# Altium schematic symbol library CCD_CAM_BOARD_3.SCHLIB: 61 symbols (part 1 of 2)
Pins are listed as number, name and electrical type; pins without a type are passive.

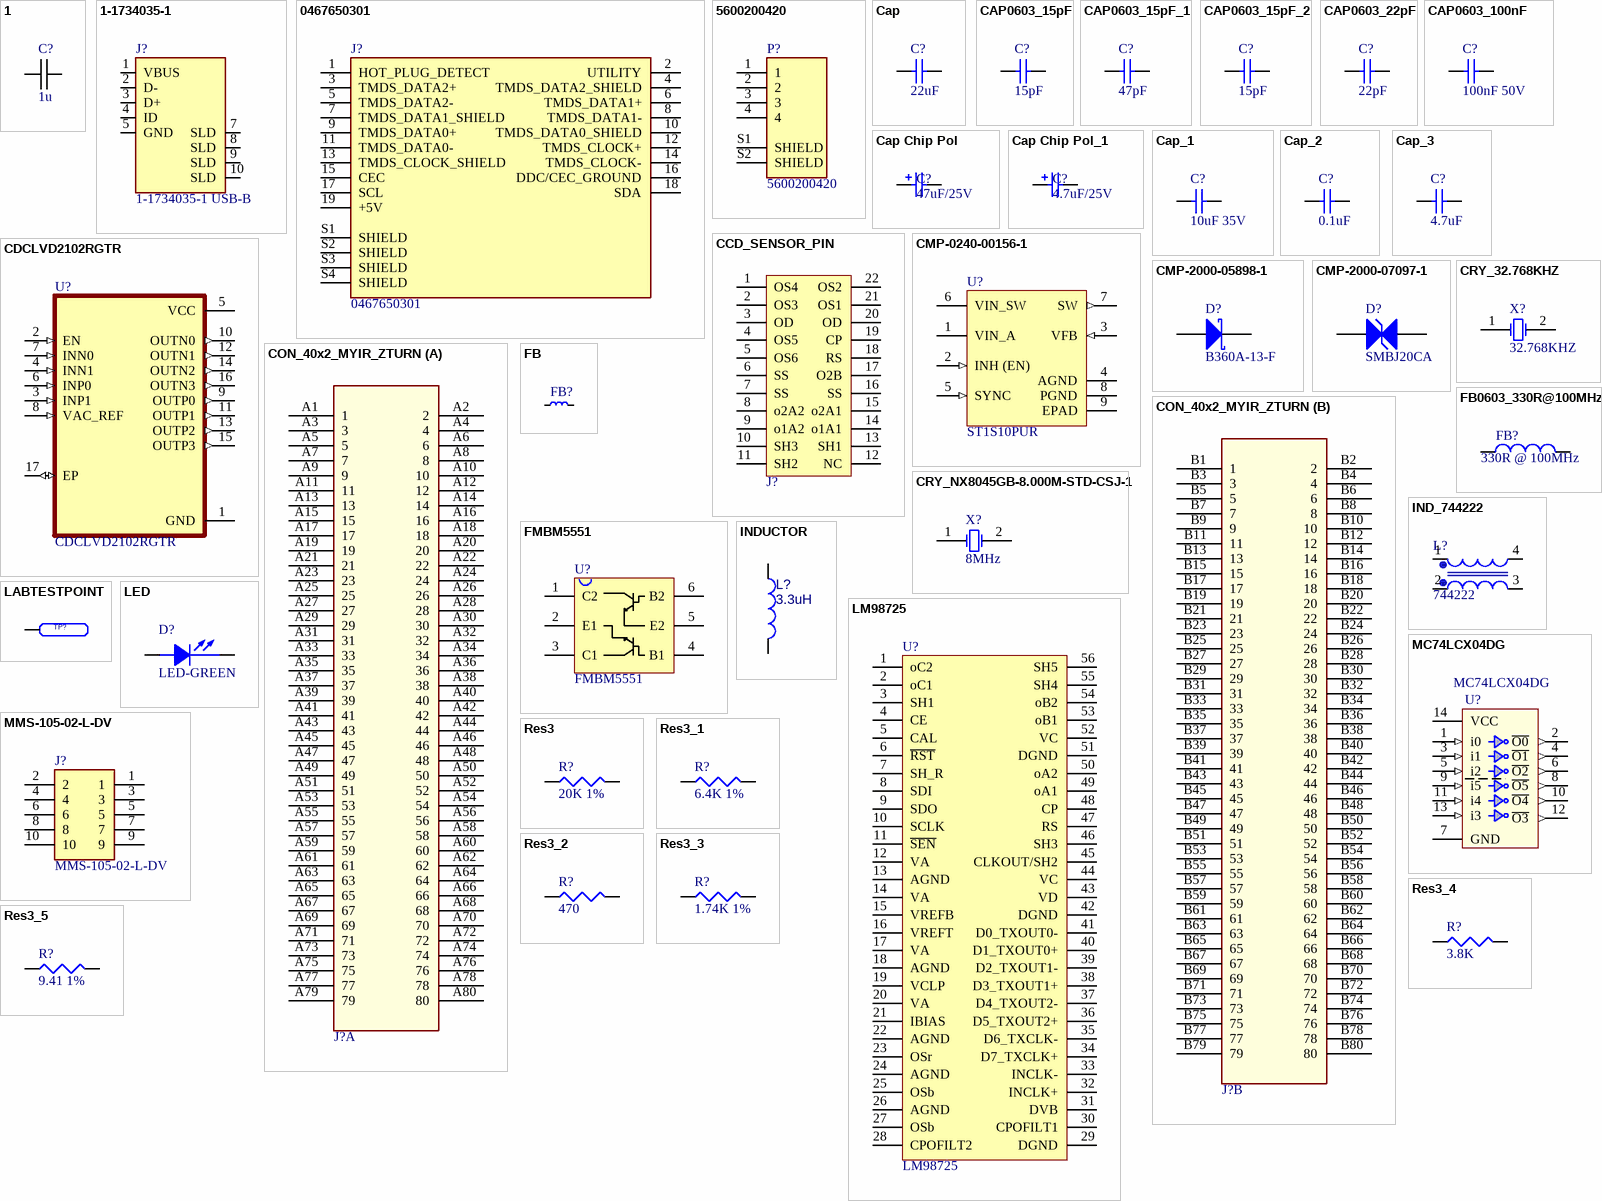
[diagram p0: symbols 1 to Res3_5]

## 1
designator C?, comment value 1u  (hidden comment: 1uF)
Capacitor 1uF, X7R, 16V, SMD0603; ID: 1; Type: Ceramic Capacitor; Manufacturer_PN: -; Package: SMD0603; Digikey Part Number: 1276-1184-1-ND
footprint C0603
pins: 1, 2

## 1-1734035-1
designator J?, comment 1-1734035-1 USB-B
Conn Mini USB 2.0 Type B RCP 5 POS 0.8mm Solder RA SMD 5 Terminal 1 Port Tray; Centerline_Pitch: .8 mm[.031 in]; Product_Type: Connector; MF: TE Connectivity; Number_of_Positions: 5; MP: 1-1734035-1; Availability: Unavailable; Package: None; Value: *; TE_purchase_URL: https://www.te.com/usa-en/product-1-1734035-1.html?te_bu=Cor&te_type=disp&te_campaign=seda_glo_cor-seda-global-disp-prtnr-fy19-seda-model-bom-cta_sma-317_1&elqCampaignId=32493; Price: None; SnapEDA_Link: https://www.snapeda.com/parts/1-1734035-1/TE%20Connectivity%20AMP%20Connectors/view-part/1088867/?ref=snap; Digikey Part Number: A111050-ND
footprint TE_1-1734035-1-3D
pins: 1 VBUS, 2 D-, 3 D+, 4 ID, 5 GND, 7 SLD, 8 SLD, 9 SLD, 10 SLD

## 0467650301
designator J?
HDMI - Micro Receptacle Connector 19 Position Surface Mount, Right Angle; MF: Molex; Value: *; Package: None; Price: None; MP: 0467650301; SnapEDA_Link: https://www.snapeda.com/parts/0467650301/Molex/view-part/2155824/?ref=snap; Availability: Unavailable
footprint MOLEX_0467650301
pins: 1 HOT_PLUG_DETECT, 2 UTILITY, 3 TMDS_DATA2+, 4 TMDS_DATA2_SHIELD, 5 TMDS_DATA2-, 6 TMDS_DATA1+, 7 TMDS_DATA1_SHIELD, 8 TMDS_DATA1-, 9 TMDS_DATA0+, 10 TMDS_DATA0_SHIELD, 11 TMDS_DATA0-, 12 TMDS_CLOCK+, 13 TMDS_CLOCK_SHIELD, 14 TMDS_CLOCK-, 15 CEC, 16 DDC/CEC_GROUND, 17 SCL, 18 SDA, 19 +5V, S1 SHIELD, S2 SHIELD, S3 SHIELD, S4 SHIELD

## 5600200420
designator P?
Connector Header Surface Mount 4 position 0.079 (2.00mm); MF: Molex; Price: None; Availability: Unavailable; MP: 5600200420; Package: None; SnapEDA_Link: https://www.snapeda.com/parts/5600200420/Molex/view-part/47265/?ref=snap; Value: *
footprint MOLEX_5600200420_3D
pins: 1, 2, 3, 4, S1 SHIELD, S2 SHIELD

## Cap
designator C?, comment 22uF
MURATA - GRM188R60J226MEA0D - CAP, 22µF, 6.3V, 20%, X5R, 0603; ComponentLink1URL: http://components.arrow.com/part/dataview/0323_06977919?src-supplier=Arrow+Europe; ComponentLink1Description: http://components.arrow.com/part/dataview/0323_06977919?src-supplier=Arrow+Europe; ComponentLink2URL: http://www.farnell.com/datasheets/1955679.pdf?src-supplier=Farnell; ComponentLink2Description: http://www.farnell.com/datasheets/1955679.pdf?src-supplier=Farnell; ComponentLink3URL: http://www.mouser.com/ds/2/281/c02e-2905.pdf?src-supplier=Mouser; ComponentLink3Description: http://www.mouser.com/ds/2/281/c02e-2905.pdf?src-supplier=Mouser; ComponentLink4URL: http://search.murata.co.jp/Ceramy/image/img/A01X/G101/ENG/GRM188R60J106KE47-02.pdf?src-supplier=Digi-Key; ComponentLink4Description: http://search.murata.co.jp/Ceramy/image/img/A01X/G101/ENG/GRM188R60J106KE47-02.pdf?src-supplier=Digi-Key; ComponentLink5URL: http://www.farnell.com/datasheets/1955679.pdf?src-supplier=Newark; ComponentLink5Description: http://www.farnell.com/datasheets/1955679.pdf?src-supplier=Newark; ComponentLink6URL: http://www.farnell.com/datasheets/1955679.pdf?src-supplier=Element14; ComponentLink6Description: http://www.farnell.com/datasheets/1955679.pdf?src-supplier=Element14; ComponentLink7URL: http://psearch.en.murata.com/capacitor/product/GRM188R60J106KE47%23.pdf?src-supplier=Avnet; ComponentLink7Description: http://psearch.en.murata.com/capacitor/product/GRM188R60J106KE47%23.pdf?src-supplier=Avnet; Supplier 1: Digi-Key; Supplier Part Number 1: 490-7611-1-ND; Manufacturer: Murata; Manufacturer Part Number: GRM188R60J226MEA0D; RoHS: Yes; Category: Ceramic Capacitors; Stock 1: 5425522; Pricing 1: 1=0,26000, 10=0,17600, 100=0,10000, 500=0,07058, 1000=0,06176 (USD); Mount: Surface Mount; Case/Package: 0603; Weight: 0.000222oz; Case Code (Metric): 1608; Case Code (Imperial): 0603; Min Operating Temperature: -55°C; Max Operating Temperature: 85°C; Capacitance: 22uF; Tolerance: 20%; Packaging: Tape and Reel; Package Quantity: 4000; Voltage Rating: 6.3V; Dielectric: X5R; Termination: SMD/SMT; Voltage Rating (DC): 6.3V; Length: 1.6mm; Height: 0.8mm; Width: 0.8mm; Thickness: 0.039inch; Depth: 0.8mm; REACH SVHC: No SVHC; Lead Free: Lead Free; ComponentLink8URL: https://datasheet.ciiva.com/29540/partnumbering-e-01-29540441.pdf?src-supplier=Digi-Key; ComponentLink8Description: https://datasheet.ciiva.com/29540/partnumbering-e-01-29540441.pdf?src-supplier=Digi-Key; ComponentLink9URL: https://datasheet.ciiva.com/29540/partnumbering-e-01-29540442.pdf?src-supplier=Digi-Key; ComponentLink9Description: https://datasheet.ciiva.com/29540/partnumbering-e-01-29540442.pdf?src-supplier=Digi-Key; ComponentLink10URL: https://datasheet.ciiva.com/29540/partnumbering-e-01-29540443.pdf?src-supplier=Digi-Key; ComponentLink10Description: https://datasheet.ciiva.com/29540/partnumbering-e-01-29540443.pdf?src-supplier=Digi-Key
footprint RAD-0.3 (Radial Cap, Thru-Hole; 2 Leads; 0.3 in Pin Spacing)
simulation model CAP (Capacitor)
signal-integrity model Cap
footprint C 0603(1608)x0.8
pins: 1, 2

## CAP0603_15pF
designator C?, comment 15pF
CAP CER 15PF 50V C0G/NP0 0603; P/N: 06035A150JAT4A; Order Code: DIGI : 478-10677-1-ND; Value: 15pF 50V
footprint CAP0603 (CAPACITOR 0603)
pins: 1, 2

## CAP0603_15pF_1
designator C?, comment 47pF
CAP CER 47PF 50V C0G 0603; Manufacturer: TDK Corporation; ManufacturerPartNumber: CGA3E2C0G1H470J080AA; DetailedDesctiprition: 47pF ±5% 50V Ceramic Capacitor C0G, NP0 0603 (1608 Metric); Value: 47pF 50V; DigikeyPartNumber: 445-5636-1-ND
footprint CAP0603 (CAPACITOR 0603)
footprint 0603 (Chip Inductor, Body 0.6x0.3mm, IPC High Density)
footprint 1608[0603] (Chip Capacitor, Body 1.6x0.8mm, IPC High Density)
footprint CAP0603 (CAPACITOR 0603)
pins: 1, 2

## CAP0603_15pF_2
designator C?, comment 15pF
CAP CER 15PF 25V C0G/NP0 0603; Manufacturer: TDK Corporation; ManufacturerPartNumber: CGA3E2C0G1H150J080AA; DetailedDesctiprition: 15pF ±5% 25V Ceramic Capacitor C0G, NP0 0603 (1608 Metric); Value: 15pF 25V; DigikeyPartNumber: 445-5630-1-ND
footprint CAP0603 (CAPACITOR 0603)
footprint 0603 (Chip Inductor, Body 0.6x0.3mm, IPC High Density)
footprint 1608[0603] (Chip Capacitor, Body 1.6x0.8mm, IPC High Density)
footprint CAP0603 (CAPACITOR 0603)
pins: 1, 2

## CAP0603_22pF
designator C?, comment 22pF
CAP CER 22PF 50V C0G/NP0 0603; P/N: GRM1885C1H220JA01D; Order Code: DIGI : 490-1411-1-ND; Value: 22pF 50V
footprint CAP0603 (CAPACITOR 0603)
pins: 1, 2

## CAP0603_100nF
designator C?, comment 100nF 50V
CAP CER 0.1UF 50V X7R 0603; P/N: C0603C104K5RACTU; Order Code: DIGI : 399-5089-1-ND; Value: 100nF 50V
footprint CAP0603 (CAPACITOR 0603)
pins: 1, 2

## Cap Chip Pol
designator C?, comment value 47uF/25V  (hidden comment: Cap)
GRM31CR61E476ME44L / Chip capacitor can be polarized or not, depending on the chip type.  Verify Capacitance and package size before placing.; Mfr Part #: GRM31CR61E476ME44L
simulation model CAP (Capacitor)
signal-integrity model Cap Pol
footprint 1206 (3216) (Chip Capacitor, Body 3.2x1.6mm, IPC High Density)
footprint 0805 (2012) (Chip, Body 2.0x1.3mm, IPC High Density)
footprint 0603 (1608) (Chip  Body 1.6x0.8mm, IPC High Density)
footprint 0402 (1005) (Chip  Body 1.0x0.5mm, IPC High Density)
pins: 1, 2
1 alternate drawing of the same symbol

## Cap Chip Pol_1
designator C?, comment value 4.7uF/25V  (hidden comment: GRM219R61E475KA73D)
GRM219R61E475KA73D / Chip capacitor can be polarized or not, depending on the chip type.  Verify Capacitance and package size before placing.; Mfr Part #: GRM219R61E475KA73D
simulation model CAP (Capacitor)
signal-integrity model Cap Pol
footprint 1206 (3216) (Chip Capacitor, Body 3.2x1.6mm, IPC High Density)
footprint 0805 (2012) (Chip, Body 2.0x1.3mm, IPC High Density)
footprint 0603 (1608) (Chip  Body 1.6x0.8mm, IPC High Density)
footprint 0402 (1005) (Chip  Body 1.0x0.5mm, IPC High Density)
pins: 1, 2
1 alternate drawing of the same symbol

## Cap_1
designator C?, comment 10uF 35V
Cap Ceramic 10uF 35V X5R 20% Pad SMD 0603 85C T/R; Manufacturer: Murata; Manufacturer Part Number: GRM188R6YA106MA73D; ComponentLink1URL: http://components.arrow.com/part/dataview/0323_06977919?src-supplier=Arrow+Europe; ComponentLink1Description: http://components.arrow.com/part/dataview/0323_06977919?src-supplier=Arrow+Europe; ComponentLink2URL: http://www.farnell.com/datasheets/1955679.pdf?src-supplier=Farnell; ComponentLink2Description: http://www.farnell.com/datasheets/1955679.pdf?src-supplier=Farnell; ComponentLink3URL: http://www.mouser.com/ds/2/281/c02e-2905.pdf?src-supplier=Mouser; ComponentLink3Description: http://www.mouser.com/ds/2/281/c02e-2905.pdf?src-supplier=Mouser; ComponentLink4URL: http://search.murata.co.jp/Ceramy/image/img/A01X/G101/ENG/GRM188R60J106KE47-02.pdf?src-supplier=Digi-Key; ComponentLink4Description: http://search.murata.co.jp/Ceramy/image/img/A01X/G101/ENG/GRM188R60J106KE47-02.pdf?src-supplier=Digi-Key; ComponentLink5URL: http://www.farnell.com/datasheets/1955679.pdf?src-supplier=Newark; ComponentLink5Description: http://www.farnell.com/datasheets/1955679.pdf?src-supplier=Newark; ComponentLink6URL: http://www.farnell.com/datasheets/1955679.pdf?src-supplier=Element14; ComponentLink6Description: http://www.farnell.com/datasheets/1955679.pdf?src-supplier=Element14; ComponentLink7URL: http://psearch.en.murata.com/capacitor/product/GRM188R60J106KE47%23.pdf?src-supplier=Avnet; ComponentLink7Description: http://psearch.en.murata.com/capacitor/product/GRM188R60J106KE47%23.pdf?src-supplier=Avnet; Supplier 1: Digi-Key; Supplier Part Number 1: 490-13248-1-ND; RoHS: Yes; Category: Ceramic Capacitors; Stock 1: 69307; Pricing 1: 1=0,50000, 10=0,34600, 100=0,20760, 500=0,15570, 1000=0,13148 (USD); Mount: Surface Mount; Case/Package: 0603; Case Code (Metric): 1608; Case Code (Imperial): 0603; Min Operating Temperature: -55°C; Max Operating Temperature: 85°C; Packaging: Tape and Reel; Capacitance: 10uF; Voltage Rating: 35V; Tolerance: 20%; Voltage Rating (DC): 35V; Dielectric: X5R; Length: 0.063inch; Width: 0.031inch; Thickness: 0.039inch; ComponentLink8URL: http://search.murata.co.jp/Ceramy/image/img/A01X/G101/ENG/GRM188R6YA106MA73-01.pdf?src-supplier=Digi-Key; ComponentLink8Description: http://search.murata.co.jp/Ceramy/image/img/A01X/G101/ENG/GRM188R6YA106MA73-01.pdf?src-supplier=Digi-Key; ComponentLink9URL: http://search.murata.co.jp/Ceramy/image/img/A01X/G101/ENG/GRM188R6YA106MA73-01.pdf?src-supplier=Mouser; ComponentLink9Description: http://search.murata.co.jp/Ceramy/image/img/A01X/G101/ENG/GRM188R6YA106MA73-01.pdf?src-supplier=Mouser; ComponentLink10URL: https://www.murata.com/~/media/webrenewal/support/library/catalog/products/capacitor/mlcc/c02e.ashx?la=en-us&src-supplier=Digi-Key; ComponentLink10Description: https://www.murata.com/~/media/webrenewal/support/library/catalog/products/capacitor/mlcc/c02e.ashx?la=en-us&src-supplier=Digi-Key; ComponentLink11URL: http://search.murata.co.jp/Ceramy/image/img/A01X/G101/ENG/GRM188R6YA106MA73-01.pdf?src-supplier=Future+Electronics; ComponentLink11Description: http://search.murata.co.jp/Ceramy/image/img/A01X/G101/ENG/GRM188R6YA106MA73-01.pdf?src-supplier=Future+Electronics; ComponentLink12URL: http://search.murata.co.jp/Ceramy/image/img/A01X/G101/ENG/GRM188R6YA106MA73-01.pdf?src-supplier=TTI; ComponentLink12Description: http://search.murata.co.jp/Ceramy/image/img/A01X/G101/ENG/GRM188R6YA106MA73-01.pdf?src-supplier=TTI
footprint RAD-0.3 (Radial Cap, Thru-Hole; 2 Leads; 0.3 in Pin Spacing)
simulation model CAP (Capacitor)
signal-integrity model Cap
footprint C 0603(1608)x0.8
pins: 1, 2

## Cap_2
designator C?, comment 0.1uF
Capacitor; Manufacturer: Murata; Manufacturer Part Number: GRM155R71C104KA88D; Material: Ceramic; Capacitance: 100nF; Tolerance: 10%; Dielectric: X7R; Voltage Rating: 16V; Insulation Resistance: 10GR; Supplier 1: Digi-Key; Supplier Part Number 1: 490-3261-6-ND; Stock 1: 141162259; Pricing 1: 1 = 0,10000, 10 = 0,03300, 100 = 0,01470, 500 = 0,01046, 1000 = 0,00822, 2500 = 0,00748, 5000 = 0,00688 (USD); RoHS: Yes; Mount: Surface Mount; Case/Package: 0402; Number of Pins: 2; Case Code (Metric): 1005; Case Code (Imperial): 0402; Dielectric Material: Ceramic; Min Operating Temperature: -55°C; Max Operating Temperature: 125°C; Packaging: Tape and Reel; Voltage Rating (DC): 16V; Package Quantity: 1; Termination: SMD/SMT; Voltage: 16V; Length: 1mm; Height: 0.5mm; Width: 0.5mm; Thickness: 0.022inch; Depth: 0.5mm; Radiation Hardening: No; REACH SVHC: No SVHC; Lead Free: Lead Free; ComponentLink1URL: https://datasheet.ciiva.com/18102/getdatasheetpartid-85307-18102905.pdf?src-supplier=Verical; ComponentLink1Description: https://datasheet.ciiva.com/18102/getdatasheetpartid-85307-18102905.pdf?src-supplier=Verical; ComponentLink2URL: https://datasheet.ciiva.com/129/grm155r71c104ka88-01-129739.pdf?src-supplier=Digi-Key; ComponentLink2Description: https://datasheet.ciiva.com/129/grm155r71c104ka88-01-129739.pdf?src-supplier=Digi-Key; ComponentLink3URL: https://datasheet.ciiva.com/129/grm155r71c104ka88-01-129740.pdf?src-supplier=Digi-Key; ComponentLink3Description: https://datasheet.ciiva.com/129/grm155r71c104ka88-01-129740.pdf?src-supplier=Digi-Key; ComponentLink4URL: https://datasheet.ciiva.com/29199/454098-da-01-en-vs-kondensator-0402-29199799.pdf?src-supplier=Conrad; ComponentLink4Description: https://datasheet.ciiva.com/29199/454098-da-01-en-vs-kondensator-0402-29199799.pdf?src-supplier=Conrad; ComponentLink5URL: https://datasheet.ciiva.com/28534/4360-28534133.pdf?src-supplier=Element14; ComponentLink5Description: https://datasheet.ciiva.com/28534/4360-28534133.pdf?src-supplier=Element14; ComponentLink6URL: https://datasheet.ciiva.com/14103/grmseries-highdielectrictype-eng-14103750.pdf?src-supplier=Distrelec; ComponentLink6Description: https://datasheet.ciiva.com/14103/grmseries-highdielectrictype-eng-14103750.pdf?src-supplier=Distrelec; ComponentLink7URL: https://datasheet.ciiva.com/16199/product-16199000.pdf?src-supplier=Future+Electronics; ComponentLink7Description: https://datasheet.ciiva.com/16199/product-16199000.pdf?src-supplier=Future+Electronics; ComponentLink8URL: https://datasheet.ciiva.com/14116/grmseries-highdielectrictype-eng-14116878.pdf?src-supplier=Distrelec; ComponentLink8Description: https://datasheet.ciiva.com/14116/grmseries-highdielectrictype-eng-14116878.pdf?src-supplier=Distrelec; ComponentLink9URL: https://datasheet.ciiva.com/7937/4360-7937615.pdf?src-supplier=Element14; ComponentLink9Description: https://datasheet.ciiva.com/7937/4360-7937615.pdf?src-supplier=Element14; ComponentLink10URL: https://datasheet.ciiva.com/28534/4360-28534127.pdf?src-supplier=Element14; ComponentLink10Description: https://datasheet.ciiva.com/28534/4360-28534127.pdf?src-supplier=Element14
footprint RAD-0.3 (Radial Cap, Thru-Hole; 2 Leads; 0.3 in Pin Spacing)
simulation model CAP (Capacitor)
signal-integrity model Cap
footprint SMC0603
footprint C 0402(1005)x0.5
pins: 1, 2

## Cap_3
designator C?, comment value 4.7uF  (hidden comment: GRM155R71H104KE14J)
Capacitor; Mfr Part #: CL10A475KA8NQNC
simulation model CAP (Capacitor)
signal-integrity model Cap
footprint 1608[0603] (Chip Capacitor, Body 1.6x0.8mm, IPC High Density)
pins: 1, 2

## CCD_SENSOR_PIN
designator J?, comment CONN  (value not drawn)
11x2 Connector
footprint CCD_SENSOR_PIN
pins: 1 OS4, 2 OS3, 3 OD, 4 OS5, 5 OS6, 6 SS, 7 SS, 8 o2A2, 9 o1A2, 10 SH3, 11 SH2, 12 NC, 13 SH1, 14 o1A1, 15 o2A1, 16 SS, 17 O2B, 18 RS, 19 CP, 20 OD, 21 OS1, 22 OS2

## CDCLVD2102RGTR
designator U?
Low Jitter, Dual 1:2 Universal-to-LVDS Buffer 16-VQFN -40 to 85; MF: Texas Instruments; MP: CDCLVD2102RGTR; Package: VQFN-16 Texas Instruments; SnapEDA_Link: https://www.snapeda.com/parts/CDCLVD2102RGTR/Texas%20Instruments/view-part/1060724/?ref=snap; Check_prices: https://www.snapeda.com/parts/CDCLVD2102RGTR/Texas%20Instruments/view-part/1060724/?ref=eda; Value: *; Digi-Key_Part_Number: 296-CDCLVD2102RGCT-ND
footprint QFN50P300X300X100-17N
pins: 1 GND (power), 2 EN (in), 3 INP1 (in), 4 INN1 (in), 5 VCC (power), 6 INP0 (in), 7 INN0 (in), 8 VAC_REF (in), 9 OUTP0 (out), 10 OUTN0 (out), 11 OUTP1 (out), 12 OUTN1 (out), 13 OUTP2 (out), 14 OUTN2 (out), 15 OUTP3 (out), 16 OUTN3 (out), 17 EP (io)

## CMP-0240-00156-1
designator U?, comment ST1S10PUR
Monolithic synchronous step-down regulator, 8-Pin DFN, Tape and Reel; Manufacturer: STMicroelectronics; Output Current: 3A; Switching Frequency: 1.2MHz; Operating Supply Voltage: 18V; Number of Outputs: 1; Output Voltage: 15.3V; Min Input Voltage: 2.5V; Efficiency: 90%; Quiescent Current: 2.5mA; Output Type: Adjustable; Synchronous Rectifier: Yes; Min Output Voltage: 800mV; ComponentLink1URL: http://www.st.com; ComponentLink2Description: Datasheet; ComponentLink1Description: Manufacturer URL; ComponentLink2URL: http://www.st.com/internet/com/TECHNICAL_RESOURCES/TECHNICAL_LITERATURE/DATASHEET/CD00169322.pdf; Supplier 1: Digi-Key; Supplier Part Number 1: 497-6313-1-ND; Manufacturer Part Number: ST1S10PUR; RoHS: Yes; Category: Voltage Regulators - Switching; Stock 1: 402; Pricing 1: 1=1,73000, 10=1,55600, 25=1,46760, 100=1,17400, 250=1,02724, 500=0,99790, 1000=0,79245 (USD); Mount: Surface Mount; Case/Package: DFN; Number of Pins: 8; Weight: 0.001319oz; Min Operating Temperature: -25°C; Max Operating Temperature: 125°C; Package Quantity: 4500; Packaging: Tape and Reel; Max Input Voltage: 18V; Max Duty Cycle: 90%; Max Output Current: 3A; Max Output Voltage: 15.3V; Length: 4mm; Height: 0.9mm; Width: 4mm; Radiation Hardening: No; Lead Free: Lead Free; REACH SVHC: No SVHC; ComponentLink3URL: https://datasheet.ciiva.com/15113/getdatasheetpartid-188392-15113798.pdf?src-supplier=Verical; ComponentLink3Description: https://datasheet.ciiva.com/15113/getdatasheetpartid-188392-15113798.pdf?src-supplier=Verical; ComponentLink4URL: https://datasheet.ciiva.com/26902/st1s10pur-26902772.pdf?src-supplier=IIIC; ComponentLink4Description: https://datasheet.ciiva.com/26902/st1s10pur-26902772.pdf?src-supplier=IIIC; ComponentLink5URL: https://datasheet.ciiva.com/2025/cd00169322-2025410.pdf?src-supplier=Digi-Key; ComponentLink5Description: https://datasheet.ciiva.com/2025/cd00169322-2025410.pdf?src-supplier=Digi-Key; ComponentLink6URL: https://datasheet.ciiva.com/2025/cd00169322-2025408.pdf?src-supplier=Digi-Key; ComponentLink6Description: https://datasheet.ciiva.com/2025/cd00169322-2025408.pdf?src-supplier=Digi-Key; ComponentLink7URL: https://datasheet.ciiva.com/2025/cd00169322-2025409.pdf?src-supplier=Digi-Key; ComponentLink7Description: https://datasheet.ciiva.com/2025/cd00169322-2025409.pdf?src-supplier=Digi-Key; ComponentLink8URL: https://datasheet.ciiva.com/16205/cd00169322-16205241.pdf?src-supplier=Future+Electronics; ComponentLink8Description: https://datasheet.ciiva.com/16205/cd00169322-16205241.pdf?src-supplier=Future+Electronics; ComponentLink9URL: https://datasheet.ciiva.com/4905/cd00169322-4905020.pdf?src-supplier=Mouser; ComponentLink9Description: https://datasheet.ciiva.com/4905/cd00169322-4905020.pdf?src-supplier=Mouser; ComponentLink10URL: https://datasheet.ciiva.com/41457/001185576-da-01-en-ic-reg-buck-sync-a-st1s10pur-3adfn-8-stm-41457644.pdf?src-supplier=Conrad; ComponentLink10Description: https://datasheet.ciiva.com/41457/001185576-da-01-en-ic-reg-buck-sync-a-st1s10pur-3adfn-8-stm-41457644.pdf?src-supplier=Conrad
footprint DFN(4x4)_N (SON, 8-Leads, Body 4x4mm, Pitch 0.8mm, Thermal Pad 3x2.2mm, IPC Medium Density)
footprint DFN(4x4)_M (SON, 8-Leads, Body 4x4mm, Pitch 0.8mm, Thermal Pad 3x2.2mm, IPC Low Density)
footprint DFN(4x4)_L (SON, 8-Leads, Body 4x4mm, Pitch 0.8mm, Thermal Pad 3x2.2mm, IPC High Density)
pins: 1 VIN_A (power), 2 INH (EN) (in), 3 VFB (in), 4 AGND (power), 5 SYNC (in), 6 VIN_SW (power), 7 SW (out), 8 PGND (power), 9 EPAD (power)

## CMP-2000-05898-1
designator D?, comment B360A-13-F
Schottky Barrier Rectifier, 3 A, -55 to 150 degC, 2-Pin Molded, RoHS, Tape and Reel; Manufacturer: Diodes; Forward Current: 3A; Max Repetitive Reverse Voltage (Vrrm): 60V; Element Configuration: Single; Forward Voltage: 700mV; Peak Reverse Current: 500uA; Max Forward Surge Current (Ifsm): 80A; Polarity: Standard; Capacitance: 250pF; Supplier 1: Digi-Key; Supplier Part Number 1: B360A-FDICT-ND; Manufacturer Part Number: B360A-13-F; RoHS: Yes; Category: Schottky Diodes; Stock 1: 508300; Pricing 1: 1=0,38000, 10=0,30800, 100=0,17690, 500=0,16380, 1000=0,11138 (USD); Mount: Surface Mount; Case/Package: SMA; Number of Pins: 2; Weight: 0.002258oz; Contact Plating: Tin,Matte; Min Operating Temperature: -55°C; Max Operating Temperature: 150°C; Packaging: Tape and Reel; Peak Non-Repetitive Surge Current: 80A; Package Quantity: 5000; Average Rectified Current: 3A; Termination: SMD/SMT; Voltage Rating (DC): 60V; Current Rating: 3A; Output Current: 3A; Max Reverse Voltage (DC): 60V; Length: 4.6mm; Height: 2.3mm; Width: 2.92mm; Radiation Hardening: No; REACH SVHC: No SVHC; Lead Free: Lead Free; ComponentLink1URL: https://datasheet.ciiva.com/914/ds30891-914080.pdf?src-supplier=Digi-Key; ComponentLink1Description: https://datasheet.ciiva.com/914/ds30891-914080.pdf?src-supplier=Digi-Key; ComponentLink2URL: https://datasheet.ciiva.com/4244/861ds30891-4244631.pdf?src-supplier=Arrow; ComponentLink2Description: https://datasheet.ciiva.com/4244/861ds30891-4244631.pdf?src-supplier=Arrow; ComponentLink3URL: https://datasheet.ciiva.com/34302/1538902-34302361.pdf?src-supplier=Jameco; ComponentLink3Description: https://datasheet.ciiva.com/34302/1538902-34302361.pdf?src-supplier=Jameco; ComponentLink4URL: https://datasheet.ciiva.com/26788/b360a-13-f-26788524.pdf?src-supplier=IIIC; ComponentLink4Description: https://datasheet.ciiva.com/26788/b360a-13-f-26788524.pdf?src-supplier=IIIC; ComponentLink5URL: https://datasheet.ciiva.com/914/ds30891-914081.pdf?src-supplier=Digi-Key; ComponentLink5Description: https://datasheet.ciiva.com/914/ds30891-914081.pdf?src-supplier=Digi-Key; ComponentLink6URL: https://datasheet.ciiva.com/25919/ds30891-25919703.pdf?src-supplier=Avnet+Europe; ComponentLink6Description: https://datasheet.ciiva.com/25919/ds30891-25919703.pdf?src-supplier=Avnet+Europe; ComponentLink7URL: https://datasheet.ciiva.com/22695/1911813-22695787.pdf?src-supplier=Element14; ComponentLink7Description: https://datasheet.ciiva.com/22695/1911813-22695787.pdf?src-supplier=Element14; ComponentLink8URL: https://datasheet.ciiva.com/914/ds30891-914082.pdf?src-supplier=Digi-Key; ComponentLink8Description: https://datasheet.ciiva.com/914/ds30891-914082.pdf?src-supplier=Digi-Key; ComponentLink9URL: https://datasheet.ciiva.com/1177/ds30891-1177482.pdf?src-supplier=Element14; ComponentLink9Description: https://datasheet.ciiva.com/1177/ds30891-1177482.pdf?src-supplier=Element14; ComponentLink10URL: https://datasheet.ciiva.com/16199/ds13005-16199422.pdf?src-supplier=Future+Electronics; ComponentLink10Description: https://datasheet.ciiva.com/16199/ds13005-16199422.pdf?src-supplier=Future+Electronics
footprint DIOD-B360A_V (Molded Diode, 2-Leads, Body 4.60x2.92mm)
pins: 1 A, 2 K

## CMP-2000-07097-1
designator D?, comment SMBJ20CA
Manufacturer: Bourns; Clamping Voltage: 32.4V; Peak Pulse Power: 600W; Reverse Standoff Voltage: 20V; Peak Pulse Current: 18.5A; Polarity: Bidirectional; Test Current: 1mA; Breakdown Voltage: 25.5V; Max Surge Current: 100A; Min Breakdown Voltage: 22.2V; Number of Elements: 1; Operating Supply Voltage: 3.5V; Leakage Current: 5uA; Power Line Protection: No; Element Configuration: Single; ComponentLink1URL: https://datasheet.ciiva.com/15143/getdatasheetpartid-185159-15143883.pdf?src-supplier=Verical; ComponentLink1Description: https://datasheet.ciiva.com/15143/getdatasheetpartid-185159-15143883.pdf?src-supplier=Verical; ComponentLink2URL: https://datasheet.ciiva.com/331/littelfuse-tvs-diode-smbj-datasheet-pdf-331700.pdf?src-supplier=Digi-Key; ComponentLink2Description: https://datasheet.ciiva.com/331/littelfuse-tvs-diode-smbj-datasheet-pdf-331700.pdf?src-supplier=Digi-Key; ComponentLink3URL: https://datasheet.ciiva.com/331/littelfuse-tvs-diode-smbj-datasheet-pdf-331701.pdf?src-supplier=Digi-Key; ComponentLink3Description: https://datasheet.ciiva.com/331/littelfuse-tvs-diode-smbj-datasheet-pdf-331701.pdf?src-supplier=Digi-Key; ComponentLink4URL: https://datasheet.ciiva.com/16291/littelfuse-tvs-diode-smbj-16291749.pdf?src-supplier=Future+Electronics; ComponentLink4Description: https://datasheet.ciiva.com/16291/littelfuse-tvs-diode-smbj-16291749.pdf?src-supplier=Future+Electronics; ComponentLink5URL: https://datasheet.ciiva.com/331/littelfuse-tvs-diode-smbj-datasheet-pdf-331702.pdf?src-supplier=Digi-Key; ComponentLink5Description: https://datasheet.ciiva.com/331/littelfuse-tvs-diode-smbj-datasheet-pdf-331702.pdf?src-supplier=Digi-Key; ComponentLink6URL: https://datasheet.ciiva.com/8062/littelfuse-tvs-diode-smbj-8062331.pdf?src-supplier=Element14; ComponentLink6Description: https://datasheet.ciiva.com/8062/littelfuse-tvs-diode-smbj-8062331.pdf?src-supplier=Element14; ComponentLink7URL: https://datasheet.ciiva.com/4509/littelfuse-tvs-diode-smbj-48653-4509661.pdf?src-supplier=Mouser; ComponentLink7Description: https://datasheet.ciiva.com/4509/littelfuse-tvs-diode-smbj-48653-4509661.pdf?src-supplier=Mouser; ComponentLink8URL: https://datasheet.ciiva.com/14162/smbj-eng-ds-14162031.pdf?src-supplier=Distrelec; ComponentLink8Description: https://datasheet.ciiva.com/14162/smbj-eng-ds-14162031.pdf?src-supplier=Distrelec; Supplier 1: Digi-Key; Supplier Part Number 1: SMBJ20CABCT-ND; Manufacturer Part Number: SMBJ20CA; RoHS: Yes; Category: TVS Diodes; Stock 1: 8734; Pricing 1: 1=0,46000, 10=0,34800, 25=0,31360, 100=0,16530, 250=0,16360, 500=0,14650, 1000=0,11400 (USD); Mount: Surface Mount; Case/Package: SMB; Number of Pins: 2; Min Operating Temperature: -55°C; Max Operating Temperature: 150°C; Packaging: Tape and Reel; Package Quantity: 1; Reverse Breakdown Voltage: 22.2V; Number of Channels: 1; Direction: Bidirectional; Composition: Zener; Max Reverse Leakage Current: 5uA; Termination: SMD/SMT; Number of Bidirectional Channels: 1; Max Breakdown Voltage: 25.5V; Max Power Dissipation: 600W; Radiation Hardening: No; REACH SVHC: No SVHC; ComponentLink9URL: https://datasheet.ciiva.com/3022/smbj-3022486.pdf?src-supplier=Avnet; ComponentLink9Description: https://datasheet.ciiva.com/3022/smbj-3022486.pdf?src-supplier=Avnet; ComponentLink10URL: https://datasheet.ciiva.com/3022/smbj-3022487.pdf?src-supplier=Avnet; ComponentLink10Description: https://datasheet.ciiva.com/3022/smbj-3022487.pdf?src-supplier=Avnet; ComponentLink11URL: https://datasheet.ciiva.com/17413/smbj-17413419.pdf?src-supplier=Avnet+Europe; ComponentLink11Description: https://datasheet.ciiva.com/17413/smbj-17413419.pdf?src-supplier=Avnet+Europe; ComponentLink12URL: https://datasheet.ciiva.com/334/smbj-334796.pdf?src-supplier=Digi-Key; ComponentLink12Description: https://datasheet.ciiva.com/334/smbj-334796.pdf?src-supplier=Digi-Key; ComponentLink13URL: https://datasheet.ciiva.com/334/smbj-334798.pdf?src-supplier=Digi-Key; ComponentLink13Description: https://datasheet.ciiva.com/334/smbj-334798.pdf?src-supplier=Digi-Key; ComponentLink14URL: https://datasheet.ciiva.com/334/smbj-334797.pdf?src-supplier=Digi-Key; ComponentLink14Description: https://datasheet.ciiva.com/334/smbj-334797.pdf?src-supplier=Digi-Key
footprint FAIR-DO-214AA-A-2_V (Molded Diode, 2-Leads, Body 4.75x3.95mm)
pins: 1 A, 2 A

## CON_40x2_MYIR_ZTURN
designator J?, comment 40x2 Connector 1.27mm Pitch  (value not drawn)
footprint CON2x80_MYIR
footprint CON2x80_MYIR_SMD
part A pins: A1 1, A2 2, A3 3, A4 4, A5 5, A6 6, A7 7, A8 8, A9 9, A10 10, A11 11, A12 12, A13 13, A14 14, A15 15, A16 16, A17 17, A18 18, A19 19, A20 20, A21 21, A22 22, A23 23, A24 24, A25 25, A26 26, A27 27, A28 28, A29 29, A30 30, A31 31, A32 32, A33 33, A34 34, A35 35, A36 36, A37 37, A38 38, A39 39, A40 40, A41 41, A42 42, A43 43, A44 44, A45 45, A46 46, A47 47, A48 48, A49 49, A50 50, A51 51, A52 52, A53 53, A54 54, A55 55, A56 56, A57 57, A58 58, A59 59, A60 60, A61 61, A62 62, A63 63, A64 64, A65 65, A66 66, A67 67, A68 68, A69 69, A70 70, A71 71, A72 72, A73 73, A74 74, A75 75, A76 76, A77 77, A78 78, A79 79, A80 80
part B pins: B1 1, B2 2, B3 3, B4 4, B5 5, B6 6, B7 7, B8 8, B9 9, B10 10, B11 11, B12 12, B13 13, B14 14, B15 15, B16 16, B17 17, B18 18, B19 19, B20 20, B21 21, B22 22, B23 23, B24 24, B25 25, B26 26, B27 27, B28 28, B29 29, B30 30, B31 31, B32 32, B33 33, B34 34, B35 35, B36 36, B37 37, B38 38, B39 39, B40 40, B41 41, B42 42, B43 43, B44 44, B45 45, B46 46, B47 47, B48 48, B49 49, B50 50, B51 51, B52 52, B53 53, B54 54, B55 55, B56 56, B57 57, B58 58, B59 59, B60 60, B61 61, B62 62, B63 63, B64 64, B65 65, B66 66, B67 67, B68 68, B69 69, B70 70, B71 71, B72 72, B73 73, B74 74, B75 75, B76 76, B77 77, B78 78, B79 79, B80 80

## CRY_32.768KHZ
designator X?, comment 32.768KHZ
CRYSTAL 32.768KHZ 12.5PF SMD; P/N: CM7V-T1A-32.768KHZ-12.5PF-20PPM-TB-QA; Order Code: DIGI : 2195-CM7V-T1A-32.768KHZ-12.5PF-20PPM-TB-QACT-ND; Value: 32.768KHZ
footprint CRY_ABS07 (0.126" L x 0.059" W (3.20mm x 1.50mm))
pins: 1 OSC1, 2 OSC2

## CRY_NX8045GB-8.000M-STD-CSJ-1
designator X?, comment 8MHz
CRYSTAL 8.0000MHZ 8PF SMD; P/N: NX8045GB-8.000M-STD-CSJ-1; Order Code: DIGI : 644-1206-1-ND; Value: 8MHz
footprint CRY_NX8045GB (0.315" L x 0.177" W (8.00mm x 4.50mm))
pins: 1 OSC1, 2 OSC2

## FB
designator FB?, comment NFZ2MSD600SN10L  (value not drawn)
Mfr Part #: NFZ2MSD600SN10L
footprint FB0402
footprint FB0806
pins: 1, 2

## FB0603_330R@100MHz
designator FB?, comment 330R @ 100MHz
FERRITE BEAD 330 OHM 0603 1LN; P/N: BLM18SG331TN1D; Order Code: DIGI : 490-3997-1-ND; Value: 330R @ 100MHz
footprint FB0603 (0.063" L x 0.031" W (1.60mm x 0.80mm))
pins: 1, 2

## FMBM5551
designator U?
footprint SOT95P285X140-6N
pins: 1 C2, 2 E1, 3 C1, 4 B1, 5 E2, 6 B2

## IND_744222
designator L?, comment 744222  (value not drawn)
Würth CMC 1MH 800MA 2LN 6 KOHM SMD; Digikey Part Number: 732-1485-1-ND; Manufacturer Part Number: 744222
footprint IND_744222_3D
pins: 1, 2, 3, 4

## INDUCTOR
designator L?, comment 3.3uH
Manufacturer: Vishay Dale; Manufacturer Part Number: IFSC1515AHER3R3M01; Tolerance: 20%; Shielding: Shielded; Current Rating: 2.7A; Saturation Current: 2.4A; DC Resistance (DCR): 56mR; Test Frequency: 100kHz; Supplier 1: Digi-Key; Supplier Part Number 1: 541-2549-1-ND; Stock 1: 20851; Pricing 1: 1 = 0,64000, 10 = 0,55900, 100 = 0,39960, 500 = 0,33568, 1000 = 0,27175 (USD); RoHS: Yes; Mount: Surface Mount; Case/Package: 1515; Number of Pins: 2; Weight: 0.001693oz; Min Operating Temperature: -55°C; Max Operating Temperature: 125°C; Packaging: Tape and Reel; Inductance Tolerance: 20%; Package Quantity: 2000; Inductance: 3.3uH; Max DC Current: 2.4A; Termination: SMD/SMT; RMS Current (Irms): 2.7A; Military Standard: Not; Length: 0.15inch; Height: 0.071inch; Width: 0.15inch; Height - Seated (Max): 0.075inch; Depth: 4mm; REACH SVHC: Unknown; Lead Free: Lead Free; ComponentLink1URL: https://datasheet.ciiva.com/8494/sc15ah01-8494965.pdf?src-supplier=Avnet; ComponentLink1Description: https://datasheet.ciiva.com/8494/sc15ah01-8494965.pdf?src-supplier=Avnet; ComponentLink2URL: https://datasheet.ciiva.com/8017/sc15ah01-8017544.pdf?src-supplier=Element14; ComponentLink2Description: https://datasheet.ciiva.com/8017/sc15ah01-8017544.pdf?src-supplier=Element14; ComponentLink3URL: https://datasheet.ciiva.com/22726/1730404-22726059.pdf?src-supplier=Element14; ComponentLink3Description: https://datasheet.ciiva.com/22726/1730404-22726059.pdf?src-supplier=Element14; ComponentLink4URL: https://datasheet.ciiva.com/16441/sc15ah01-16441598.pdf?src-supplier=Future+Electronics; ComponentLink4Description: https://datasheet.ciiva.com/16441/sc15ah01-16441598.pdf?src-supplier=Future+Electronics; ComponentLink5URL: https://datasheet.ciiva.com/6694/sc15ah01-6694703.pdf?src-supplier=Digi-Key; ComponentLink5Description: https://datasheet.ciiva.com/6694/sc15ah01-6694703.pdf?src-supplier=Digi-Key
footprint IFSC1515AHER
pins: 1, 2

## LABTESTPOINT
designator TP?, comment 3V7  (value not drawn)
CHIPS_PART_NAME: LABTESTPOINT; OriginalSymbolOrigin: (0,50); PATH: I62; PACK_TYPE: PIN; SEC: 1; XY: (-650,5200); VER: 3; ROT: 0; LOCATION: TP501; DRAWING: @P3326_A01_LIB.P3326_A01(SCH_1):PAGE3; DEVICE_TYPENAME: LABTESTPOINT_PIN-LABTESTPOINT; CDS_LIB: electro_mechanic; SKU: COMMON; PHYS_PAGE: 3; CDS_SEC: 1; CDS_PHYS_PART_NAME: LABTESTPOINT_PIN-LABTESTPOINT; CDS_PART_NAME: LABTESTPOINT_PIN-LABTESTPOINT; CDS_LOCATION: TP501
footprint LTPT35C49P
pins: 1

## LED
designator D?, comment LED-GREEN
ROHM         SML-D12P8WT86             LED, EXCELED, Green, SMD, 20 mA, 2.2 V, 560 nm; Lens Color: White; Lens Style: Rectangular,Diffused,Colorless; Dominant Wavelength: 560nm; Forward Voltage: 2.2V; Luminous Intensity: 6.3mcd; Test Current: 20mA; Number of LEDs: 1; Viewing Angle: 160°; Lens Transparency: Diffused; ComponentLink1URL: https://datasheet.ciiva.com/12400/ltst-s270gkt-201857-12400883.pdf?src-supplier=Mouser; ComponentLink1Description: https://datasheet.ciiva.com/12400/ltst-s270gkt-201857-12400883.pdf?src-supplier=Mouser; ComponentLink2URL: https://datasheet.ciiva.com/11773/0900766b80dc0b86-11773515.pdf?src-supplier=RSComponents; ComponentLink2Description: https://datasheet.ciiva.com/11773/0900766b80dc0b86-11773515.pdf?src-supplier=RSComponents; ComponentLink3URL: https://datasheet.ciiva.com/2110/ltst-s270gkt-2110018.pdf?src-supplier=Digi-Key; ComponentLink3Description: https://datasheet.ciiva.com/2110/ltst-s270gkt-2110018.pdf?src-supplier=Digi-Key; ComponentLink4URL: https://datasheet.ciiva.com/2110/ltst-s270gkt-2110020.pdf?src-supplier=Digi-Key; ComponentLink4Description: https://datasheet.ciiva.com/2110/ltst-s270gkt-2110020.pdf?src-supplier=Digi-Key; ComponentLink5URL: https://datasheet.ciiva.com/2110/ltst-s270gkt-2110019.pdf?src-supplier=Digi-Key; ComponentLink5Description: https://datasheet.ciiva.com/2110/ltst-s270gkt-2110019.pdf?src-supplier=Digi-Key; ComponentLink6URL: https://datasheet.ciiva.com/2110/sml-d1-2110417.pdf?src-supplier=Digi-Key; ComponentLink6Description: https://datasheet.ciiva.com/2110/sml-d1-2110417.pdf?src-supplier=Digi-Key; ComponentLink7URL: https://datasheet.ciiva.com/16488/rohm20sml-d12p8wt86-16488100.pdf?src-supplier=Future+Electronics; ComponentLink7Description: https://datasheet.ciiva.com/16488/rohm20sml-d12p8wt86-16488100.pdf?src-supplier=Future+Electronics; ComponentLink8URL: https://datasheet.ciiva.com/2110/sml-d1-2110418.pdf?src-supplier=Digi-Key; ComponentLink8Description: https://datasheet.ciiva.com/2110/sml-d1-2110418.pdf?src-supplier=Digi-Key; ComponentLink9URL: https://datasheet.ciiva.com/2110/sml-d1-2110419.pdf?src-supplier=Digi-Key; ComponentLink9Description: https://datasheet.ciiva.com/2110/sml-d1-2110419.pdf?src-supplier=Digi-Key; ComponentLink10URL: https://datasheet.ciiva.com/3161/sml-d1-3161420.pdf?src-supplier=Avnet; ComponentLink10Description: https://datasheet.ciiva.com/3161/sml-d1-3161420.pdf?src-supplier=Avnet; Supplier 1: Digi-Key; Supplier Part Number 1: 511-1579-1-ND; Manufacturer: Rohm; Manufacturer Part Number: SML-D12P8WT86; RoHS: Yes; Category: LEDs; Stock 1: 31644; Pricing 1: 1=0,33000, 10=0,23900, 100=0,11340, 500=0,07560, 1000=0,05922 (USD); Mount: Surface Mount; Case/Package: 0603; Number of Pins: 2; Color: Green; Case Code (Metric): 1608; Case Code (Imperial): 0603; Min Operating Temperature: -40°C; Max Operating Temperature: 85°C; Packaging: Tape and Reel; Package Quantity: 1; Illumination Color: Green; Forward Current: 20mA; Wavelength: 560nm; Length: 1.6mm; Height: 0.65mm; Width: 0.8mm; Radiation Hardening: No; REACH SVHC: Unknown; Lead Free: Lead Free
footprint LED_0603
pins: 1 ANODE, 2 CATHODE

## LM98725
designator U?
Mfr Part #: LM98725
footprint SOP50P810X110-56N
pins: 1 oC2, 2 oC1, 3 SH1, 4 CE, 5 CAL, 6 ~{RST}, 7 SH_R, 8 SDI, 9 SDO, 10 SCLK, 11 ~{SEN}, 12 VA, 13 AGND, 14 VA, 15 VREFB, 16 VREFT, 17 VA, 18 AGND, 19 VCLP, 20 VA, 21 IBIAS, 22 AGND, 23 OSr, 24 AGND, 25 OSb, 26 AGND, 27 OSb, 28 CPOFILT2, 29 DGND, 30 CPOFILT1, 31 DVB, 32 INCLK+, 33 INCLK-, 34 D7_TXCLK+, 35 D6_TXCLK-, 36 D5_TXOUT2+, 37 D4_TXOUT2-, 38 D3_TXOUT1+, 39 D2_TXOUT1-, 40 D1_TXOUT0+, 41 D0_TXOUT0-, 42 DGND, 43 VD, 44 VC, 45 CLKOUT/SH2, 46 SH3, 47 RS, 48 CP, 49 oA1, 50 oA2, 51 DGND, 52 VC, 53 oB1, 54 oB2, 55 SH4, 56 SH5

## MC74LCX04DG
designator U?
Inverter IC 6 Channel 14-SOIC; Value: *
footprint SOIC127P600X175-14N
pins: 1 i0 (in), 2 ~{O0} (out), 3 i1 (in), 4 ~{O1} (out), 5 i2 (in), 6 ~{O2} (out), 7 GND, 8 ~{O5} (out), 9 i5 (in), 10 ~{O4} (out), 11 i4 (in), 12 ~{O3} (out), 13 i3 (in), 14 VCC (power)

## MMS-105-02-L-DV
designator J?
10 Position Receptacle Connector Surface Mount; MF: Samtec; Price: None; Package: None; Toby_UK-Purchase-URL: https://snapeda.com/shop?store=Toby+UK&id=4795617; Availability: Bad; MP: MMS-105-02-L-DV; Value: *; SnapEDA_Link: https://www.snapeda.com/parts/MMS-105-02-L-DV/Samtec/view-part/4795617/?ref=snap
footprint SAMTEC_MMS-105-02-L-DV
pins: 1, 2, 3, 4, 5, 6, 7, 8, 9, 10

## Res3
designator R?, comment 20K 1%
RES 20K OHM 1% 1/16W 0402; Manufacturer: Vishay; Manufacturer Part Number: CRCW040220K0FKEDC; Power Rating: 62.5mW; Resistance: 20kR; Temperature Coefficient: 100ppm/°C; ComponentLink1URL: https://datasheet.ciiva.com/11819/0900766b80c66297-11819477.pdf?src-supplier=RSComponents; ComponentLink1Description: https://datasheet.ciiva.com/11819/0900766b80c66297-11819477.pdf?src-supplier=RSComponents; ComponentLink2URL: https://datasheet.ciiva.com/12666/pyu-rc0402-51-rohs-l-6-r-12666741.pdf?src-supplier=Mouser; ComponentLink2Description: https://datasheet.ciiva.com/12666/pyu-rc0402-51-rohs-l-6-r-12666741.pdf?src-supplier=Mouser; ComponentLink3URL: https://datasheet.ciiva.com/17063/pyu-rc0402-51-rohs-l-6-r-17063193.pdf?src-supplier=Future+Electronics; ComponentLink3Description: https://datasheet.ciiva.com/17063/pyu-rc0402-51-rohs-l-6-r-17063193.pdf?src-supplier=Future+Electronics; ComponentLink4URL: https://datasheet.ciiva.com/22747/1018594-22747513.pdf?src-supplier=Element14; ComponentLink4Description: https://datasheet.ciiva.com/22747/1018594-22747513.pdf?src-supplier=Element14; ComponentLink5URL: https://datasheet.ciiva.com/7849/1018594-7849869.pdf?src-supplier=Element14; ComponentLink5Description: https://datasheet.ciiva.com/7849/1018594-7849869.pdf?src-supplier=Element14; ComponentLink6URL: https://datasheet.ciiva.com/7983/1018594-7983502.pdf?src-supplier=Element14; ComponentLink6Description: https://datasheet.ciiva.com/7983/1018594-7983502.pdf?src-supplier=Element14; ComponentLink7URL: https://datasheet.ciiva.com/7849/1018594-7849871.pdf?src-supplier=Element14; ComponentLink7Description: https://datasheet.ciiva.com/7849/1018594-7849871.pdf?src-supplier=Element14; ComponentLink8URL: https://datasheet.ciiva.com/2553/pyu-r-int-thick-7-2553200.pdf?src-supplier=Digi-Key; ComponentLink8Description: https://datasheet.ciiva.com/2553/pyu-r-int-thick-7-2553200.pdf?src-supplier=Digi-Key; ComponentLink9URL: https://datasheet.ciiva.com/7983/1018594-7983501.pdf?src-supplier=Element14; ComponentLink9Description: https://datasheet.ciiva.com/7983/1018594-7983501.pdf?src-supplier=Element14; ComponentLink10URL: https://datasheet.ciiva.com/2553/pyu-r-int-thick-7-2553201.pdf?src-supplier=Digi-Key; ComponentLink10Description: https://datasheet.ciiva.com/2553/pyu-r-int-thick-7-2553201.pdf?src-supplier=Digi-Key; ComponentLink11URL: https://datasheet.ciiva.com/2553/pyu-r-int-thick-7-2553202.pdf?src-supplier=Digi-Key; ComponentLink11Description: https://datasheet.ciiva.com/2553/pyu-r-int-thick-7-2553202.pdf?src-supplier=Digi-Key; ComponentLink12URL: https://datasheet.ciiva.com/15189/getdatasheetpartid-251817-15189388.pdf?src-supplier=Verical; ComponentLink12Description: https://datasheet.ciiva.com/15189/getdatasheetpartid-251817-15189388.pdf?src-supplier=Verical; ComponentLink13URL: https://datasheet.ciiva.com/11808/0900766b80c66297-11808454.pdf?src-supplier=RSComponents; ComponentLink13Description: https://datasheet.ciiva.com/11808/0900766b80c66297-11808454.pdf?src-supplier=RSComponents; ComponentLink14URL: https://datasheet.ciiva.com/2453/pyu-r-int-thick-7-2453494.pdf?src-supplier=Digi-Key; ComponentLink14Description: https://datasheet.ciiva.com/2453/pyu-r-int-thick-7-2453494.pdf?src-supplier=Digi-Key; ComponentLink15URL: https://datasheet.ciiva.com/2453/pyu-r-int-thick-7-2453495.pdf?src-supplier=Digi-Key; ComponentLink15Description: https://datasheet.ciiva.com/2453/pyu-r-int-thick-7-2453495.pdf?src-supplier=Digi-Key; ComponentLink16URL: https://datasheet.ciiva.com/7983/1018594-7983511.pdf?src-supplier=Element14; ComponentLink16Description: https://datasheet.ciiva.com/7983/1018594-7983511.pdf?src-supplier=Element14; ComponentLink17URL: https://datasheet.ciiva.com/12558/pyu-rc0402-51-rohs-l-6-r-8721-12558796.pdf?src-supplier=Mouser; ComponentLink17Description: https://datasheet.ciiva.com/12558/pyu-rc0402-51-rohs-l-6-r-8721-12558796.pdf?src-supplier=Mouser; ComponentLink18URL: https://datasheet.ciiva.com/2453/pyu-r-int-thick-7-2453493.pdf?src-supplier=Digi-Key; ComponentLink18Description: https://datasheet.ciiva.com/2453/pyu-r-int-thick-7-2453493.pdf?src-supplier=Digi-Key; ComponentLink19URL: https://datasheet.ciiva.com/46394/1018594-46394974.pdf?src-supplier=Element14; ComponentLink19Description: https://datasheet.ciiva.com/46394/1018594-46394974.pdf?src-supplier=Element14; Supplier 1: Digi-Key; Supplier Part Number 1: 541-3969-1-ND; RoHS: Yes; Category: Resistors; Stock 1: 532226; Pricing 1: 1=0,10000, 10=0,03200, 100=0,01300, 1000=0,00583, 2500=0,00506, 5000=0,00418 (USD); Mount: Surface Mount; Case/Package: SMD/SMT; Contact Plating: Tin; Min Operating Temperature: -55°C; Max Operating Temperature: 155°C; Tolerance: 1%; Composition: Thick Film; Termination: Wraparound; Length: 1mm; Lead Free: Lead Free; ComponentLink20URL: http://www.vishay.com/docs/28773/crcwce3.pdf?src-supplier=Digi-Key; ComponentLink20Description: http://www.vishay.com/docs/28773/crcwce3.pdf?src-supplier=Digi-Key
simulation model RESISTOR (Resistor)
signal-integrity model Res
footprint SMR0603
footprint R 0402(1005)
pins: 1, 2

## Res3_1
designator R?, comment 6.4K 1%
RES SMD 5.49K OHM 1% 1/16W 0402; Manufacturer: Yageo; Manufacturer Part Number: RC0402FR-075K49L; Resistance: 5.49kR; Power Rating: 62.5mW; Voltage Rating: 50V; Temperature Coefficient: 100ppm/°C; Max Power Dissipation: 63mW; ComponentLink1URL: https://datasheet.ciiva.com/11819/0900766b80c66297-11819477.pdf?src-supplier=RSComponents; ComponentLink1Description: https://datasheet.ciiva.com/11819/0900766b80c66297-11819477.pdf?src-supplier=RSComponents; ComponentLink2URL: https://datasheet.ciiva.com/12666/pyu-rc0402-51-rohs-l-6-r-12666741.pdf?src-supplier=Mouser; ComponentLink2Description: https://datasheet.ciiva.com/12666/pyu-rc0402-51-rohs-l-6-r-12666741.pdf?src-supplier=Mouser; ComponentLink3URL: https://datasheet.ciiva.com/17063/pyu-rc0402-51-rohs-l-6-r-17063193.pdf?src-supplier=Future+Electronics; ComponentLink3Description: https://datasheet.ciiva.com/17063/pyu-rc0402-51-rohs-l-6-r-17063193.pdf?src-supplier=Future+Electronics; ComponentLink4URL: https://datasheet.ciiva.com/22747/1018594-22747513.pdf?src-supplier=Element14; ComponentLink4Description: https://datasheet.ciiva.com/22747/1018594-22747513.pdf?src-supplier=Element14; ComponentLink5URL: https://datasheet.ciiva.com/7849/1018594-7849869.pdf?src-supplier=Element14; ComponentLink5Description: https://datasheet.ciiva.com/7849/1018594-7849869.pdf?src-supplier=Element14; ComponentLink6URL: https://datasheet.ciiva.com/7983/1018594-7983502.pdf?src-supplier=Element14; ComponentLink6Description: https://datasheet.ciiva.com/7983/1018594-7983502.pdf?src-supplier=Element14; ComponentLink7URL: https://datasheet.ciiva.com/7849/1018594-7849871.pdf?src-supplier=Element14; ComponentLink7Description: https://datasheet.ciiva.com/7849/1018594-7849871.pdf?src-supplier=Element14; ComponentLink8URL: https://datasheet.ciiva.com/2553/pyu-r-int-thick-7-2553200.pdf?src-supplier=Digi-Key; ComponentLink8Description: https://datasheet.ciiva.com/2553/pyu-r-int-thick-7-2553200.pdf?src-supplier=Digi-Key; ComponentLink9URL: https://datasheet.ciiva.com/7983/1018594-7983501.pdf?src-supplier=Element14; ComponentLink9Description: https://datasheet.ciiva.com/7983/1018594-7983501.pdf?src-supplier=Element14; ComponentLink10URL: https://datasheet.ciiva.com/2553/pyu-r-int-thick-7-2553201.pdf?src-supplier=Digi-Key; ComponentLink10Description: https://datasheet.ciiva.com/2553/pyu-r-int-thick-7-2553201.pdf?src-supplier=Digi-Key; ComponentLink11URL: https://datasheet.ciiva.com/2553/pyu-r-int-thick-7-2553202.pdf?src-supplier=Digi-Key; ComponentLink11Description: https://datasheet.ciiva.com/2553/pyu-r-int-thick-7-2553202.pdf?src-supplier=Digi-Key; ComponentLink12URL: https://datasheet.ciiva.com/15189/getdatasheetpartid-251817-15189388.pdf?src-supplier=Verical; ComponentLink12Description: https://datasheet.ciiva.com/15189/getdatasheetpartid-251817-15189388.pdf?src-supplier=Verical; ComponentLink13URL: https://datasheet.ciiva.com/11808/0900766b80c66297-11808454.pdf?src-supplier=RSComponents; ComponentLink13Description: https://datasheet.ciiva.com/11808/0900766b80c66297-11808454.pdf?src-supplier=RSComponents; ComponentLink14URL: https://datasheet.ciiva.com/2453/pyu-r-int-thick-7-2453494.pdf?src-supplier=Digi-Key; ComponentLink14Description: https://datasheet.ciiva.com/2453/pyu-r-int-thick-7-2453494.pdf?src-supplier=Digi-Key; ComponentLink15URL: https://datasheet.ciiva.com/2453/pyu-r-int-thick-7-2453495.pdf?src-supplier=Digi-Key; ComponentLink15Description: https://datasheet.ciiva.com/2453/pyu-r-int-thick-7-2453495.pdf?src-supplier=Digi-Key; ComponentLink16URL: https://datasheet.ciiva.com/7983/1018594-7983511.pdf?src-supplier=Element14; ComponentLink16Description: https://datasheet.ciiva.com/7983/1018594-7983511.pdf?src-supplier=Element14; ComponentLink17URL: https://datasheet.ciiva.com/12558/pyu-rc0402-51-rohs-l-6-r-8721-12558796.pdf?src-supplier=Mouser; ComponentLink17Description: https://datasheet.ciiva.com/12558/pyu-rc0402-51-rohs-l-6-r-8721-12558796.pdf?src-supplier=Mouser; ComponentLink18URL: https://datasheet.ciiva.com/2453/pyu-r-int-thick-7-2453493.pdf?src-supplier=Digi-Key; ComponentLink18Description: https://datasheet.ciiva.com/2453/pyu-r-int-thick-7-2453493.pdf?src-supplier=Digi-Key; ComponentLink19URL: https://datasheet.ciiva.com/46394/1018594-46394974.pdf?src-supplier=Element14; ComponentLink19Description: https://datasheet.ciiva.com/46394/1018594-46394974.pdf?src-supplier=Element14; ComponentLink20URL: https://datasheet.ciiva.com/15189/getdatasheetpartid-323692-15189807.pdf?src-supplier=Verical; ComponentLink20Description: https://datasheet.ciiva.com/15189/getdatasheetpartid-323692-15189807.pdf?src-supplier=Verical; ComponentLink21URL: https://datasheet.ciiva.com/2519/pyu-r-int-thick-7-2519204.pdf?src-supplier=Digi-Key; ComponentLink21Description: https://datasheet.ciiva.com/2519/pyu-r-int-thick-7-2519204.pdf?src-supplier=Digi-Key; ComponentLink22URL: https://datasheet.ciiva.com/2519/pyu-r-int-thick-7-2519205.pdf?src-supplier=Digi-Key; ComponentLink22Description: https://datasheet.ciiva.com/2519/pyu-r-int-thick-7-2519205.pdf?src-supplier=Digi-Key; ComponentLink23URL: https://datasheet.ciiva.com/2519/pyu-r-int-thick-7-2519206.pdf?src-supplier=Digi-Key; ComponentLink23Description: https://datasheet.ciiva.com/2519/pyu-r-int-thick-7-2519206.pdf?src-supplier=Digi-Key; ComponentLink24URL: https://datasheet.ciiva.com/5556/rk73h-5556598.pdf?src-supplier=Mouser; ComponentLink24Description: https://datasheet.ciiva.com/5556/rk73h-5556598.pdf?src-supplier=Mouser; Supplier 1: Digi-Key; Supplier Part Number 1: 311-5.49KLRCT-ND; RoHS: Yes; Category: Chip SMD Resistors; Stock 1: 34634; Pricing 1: 1=0,10000, 10=0,01600, 100=0,00640, 1000=0,00289, 2500=0,00251, 5000=0,00207 (USD); Case/Package: 0402; Case Code (Imperial): 0402; Case Code (Metric): 1005; Contact Plating: Tin,Matte; Min Operating Temperature: -55°C; Max Operating Temperature: 155°C; Tolerance: 1%; Packaging: Tape and Reel; Package Quantity: 1; Termination: SMD/SMT; Composition: Thick Film; Number of Terminations: 2; Military Standard: Not; Voltage Rating (DC): 50V; Features: Moisture Resistant; Length: 1mm; Height: 0.016inch; Width: 0.5mm; Depth: 0.5mm; Lead Free: Lead Free; ComponentLink25URL: https://datasheet.ciiva.com/16868/pyu-rc0402-51-rohs-l-6-16868119.pdf?src-supplier=Avnet+Europe; ComponentLink25Description: https://datasheet.ciiva.com/16868/pyu-rc0402-51-rohs-l-6-16868119.pdf?src-supplier=Avnet+Europe; ComponentLink26URL: https://datasheet.ciiva.com/8892/pyu-rc0402-51-rohs-l-6-8892634.pdf?src-supplier=Avnet; ComponentLink26Description: https://datasheet.ciiva.com/8892/pyu-rc0402-51-rohs-l-6-8892634.pdf?src-supplier=Avnet; ComponentLink27URL: https://datasheet.ciiva.com/28409/pyu-rc0402-51-rohs-l-6-28409292.pdf?src-supplier=Avnet+Europe; ComponentLink27Description: https://datasheet.ciiva.com/28409/pyu-rc0402-51-rohs-l-6-28409292.pdf?src-supplier=Avnet+Europe; ComponentLink28URL: https://datasheet.ciiva.com/2453/pyu-r-int-thick-7-2453629.pdf?src-supplier=Digi-Key; ComponentLink28Description: https://datasheet.ciiva.com/2453/pyu-r-int-thick-7-2453629.pdf?src-supplier=Digi-Key; ComponentLink29URL: https://datasheet.ciiva.com/2453/pyu-r-int-thick-7-2453630.pdf?src-supplier=Digi-Key; ComponentLink29Description: https://datasheet.ciiva.com/2453/pyu-r-int-thick-7-2453630.pdf?src-supplier=Digi-Key
simulation model RESISTOR (Resistor)
signal-integrity model Res
footprint SMR0603
footprint R 0402(1005)
pins: 1, 2